# EAGLE library part MCP6074-X_ST (library MCP6074)
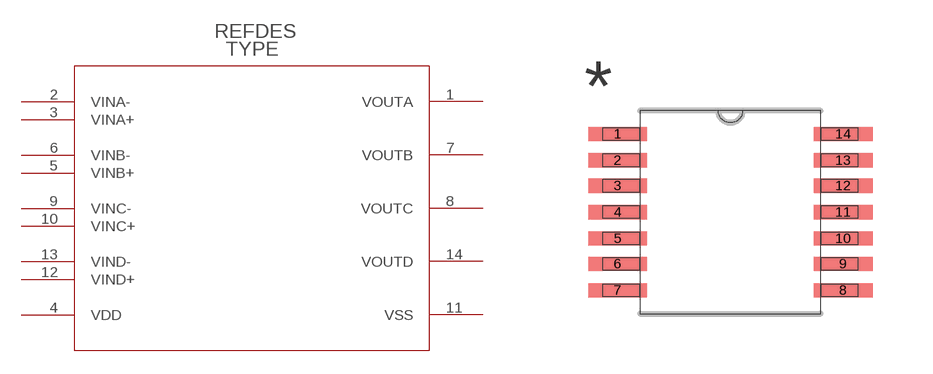
[diagram p3: symbol with the pads of TSSOP14_MC; footprint TSSOP14_MC]

Designator prefix -

## MCP6074-X_ST  [TSSOP14_MC]
1  VOUTA  pas
2  VINA-  pas
3  VINA+  pas
4  VDD  pas
5  VINB+  pas
6  VINB-  pas
7  VOUTB  pas
8  VOUTC  pas
9  VINC-  pas
10  VINC+  pas
11  VSS  pas
12  VIND+  pas
13  VIND-  pas
14  VOUTD  pas

## Footprint TSSOP14_MC (pad centres in mm)
smd 1.473 x 0.356: 1 -2.819,1.956; 2 -2.819,1.295; 3 -2.819,0.66; 4 -2.819,0; 5 -2.819,-0.66; 6 -2.819,-1.295; 7 -2.819,-1.956; 8 2.819,-1.956; 9 2.819,-1.295; 10 2.819,-0.66; 11 2.819,0; 12 2.819,0.66; 13 2.819,1.295; 14 2.819,1.956